# Altium integrated library TI Data Converters Digital to Analog Converter.IntLib: 1533 symbols (part 71 of 99)
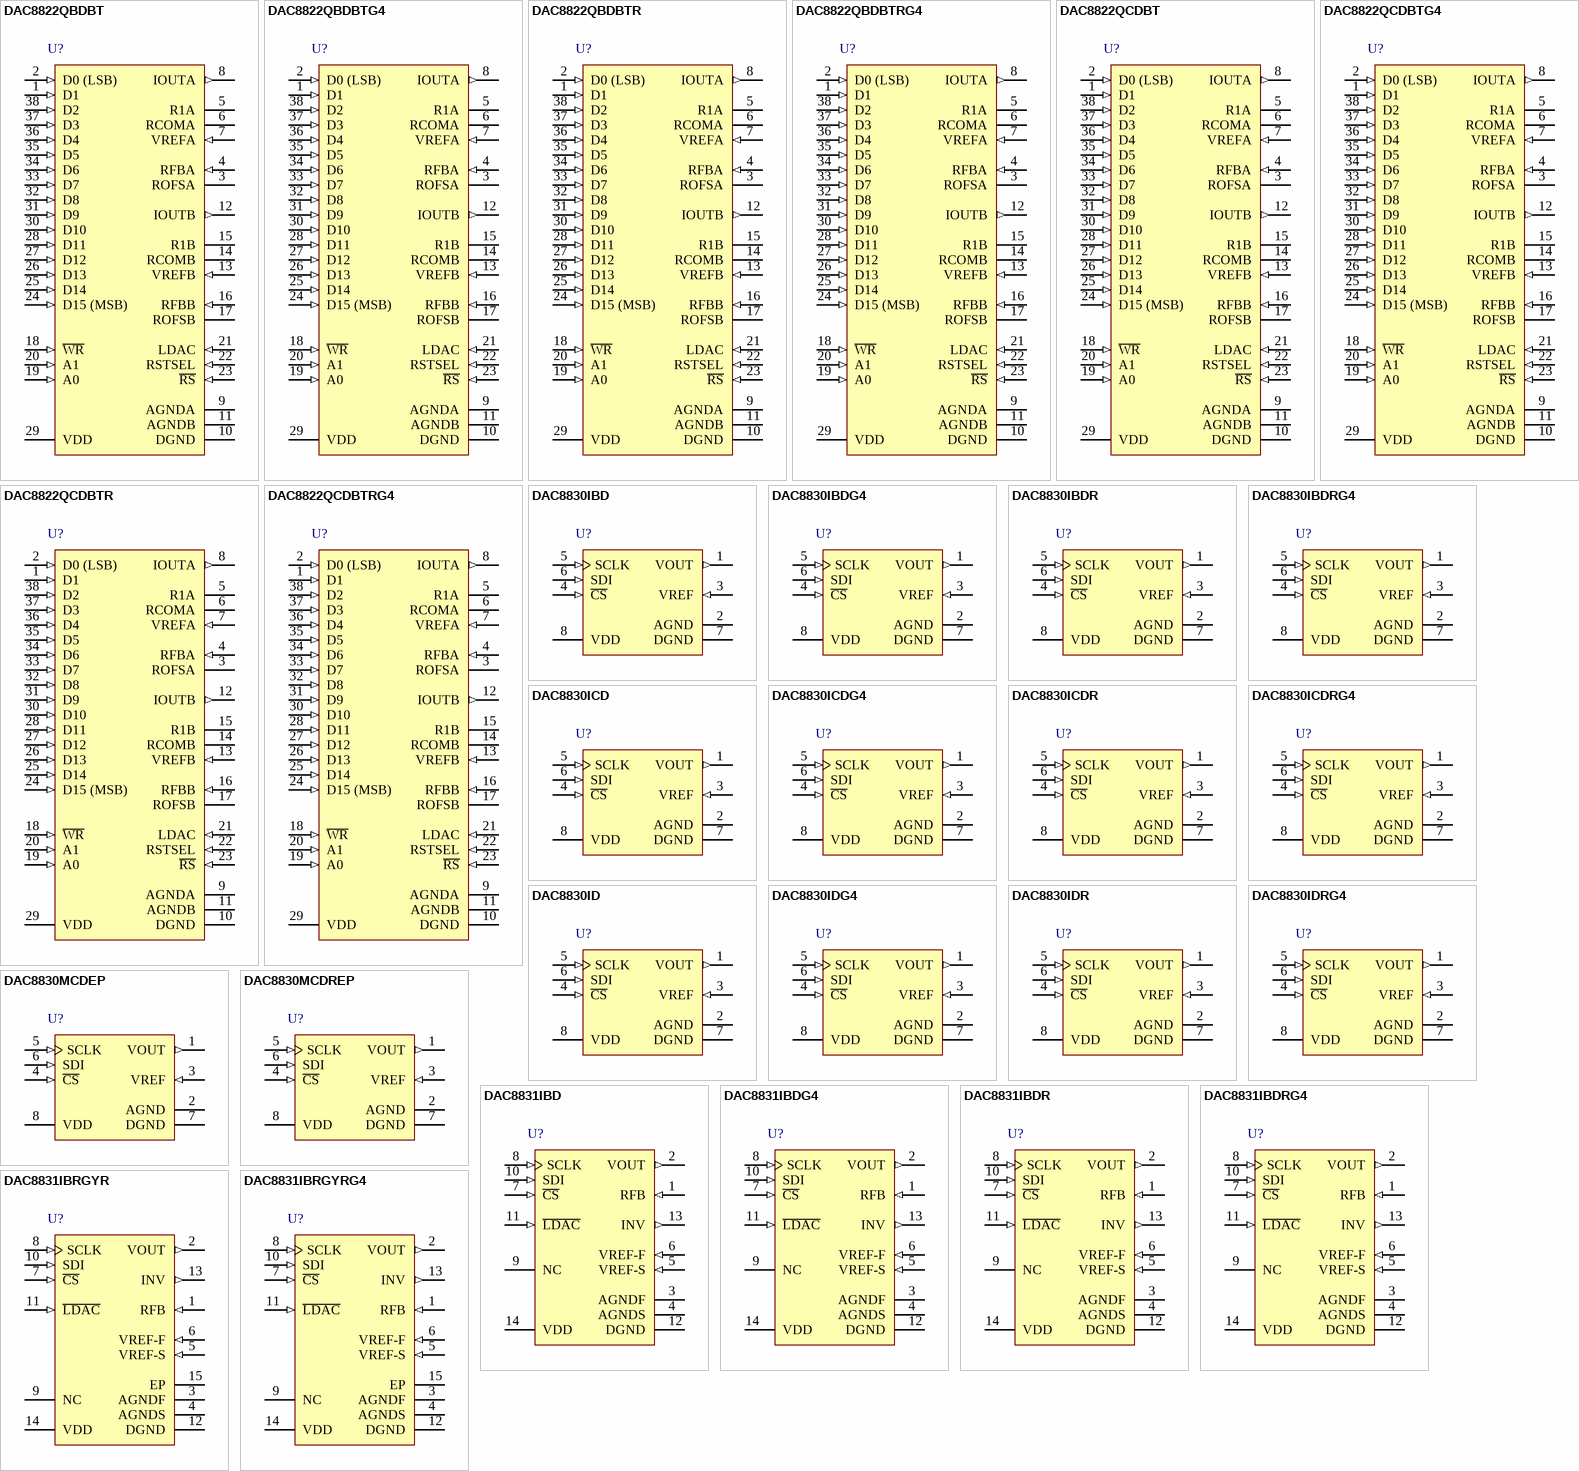
[diagram p143: symbols DAC8822QBDBT to DAC8831IBRGYRG4]

## DAC8822QCDBTRG4
designator U?
16-Bit Dual Parallel Interface High Accuracy Multiplying DAC, -40 to 125 degC, 38-pin SOP (DBT38), Green (RoHS & no Sb/Br); Manufacturer: Texas Instruments; PartNumber: DAC8822QCDBTRG4; DAC Channels: 2; DNL(Max)(+/-LSB): 1; Power Consumption(Typ)(mW): 0.025; Resolution(Bits): 16; Settling Time(us): 0.5; SubFamily: Precision DAC (=<10MSPS); DatasheetVersion: SBAS390A; PackageVersion: 4073252-6/I, 03/2011; PackageReference: DBT38; PackageDescription: 38-Pin Plastic Small Outline, Body 9.7 x 4.4 mm, Pitch 0.5 mm; Supplier 1: Digi-Key; Supplier Part Number 1: DAC8822QCDBTRG4-ND; Supplier 2: Mouser; Supplier Part Number 2: 595-DAC8822QCDBTRG4; Eco-Plan: Green (RoHS & no Sb/Br); INL(Max)(+/-LSB): 1; Interface: Parallel; Mounting Technology: Surface Mount; Code_JEDEC: MO-153; ComponentLink1Description: Manufacturer URL; ComponentLink1URL: http://www.ti.com/; ComponentLink2Description: Datasheet; ComponentLink2URL: http://www.ti.com/general/docs/lit/getliterature.tsp?genericPartNumber=DAC8822&fileType=pdf; ComponentLink3Description: Package Specification; ComponentLink3URL: http://www.ti.com/litv/pdf/mpds368
footprint TI-DBT38_N (SOP, 38-Leads, Body 9.7x4.4mm, Pitch 0.5mm, IPC Medium Density)
footprint TI-DBT38_L (SOP, 38-Leads, Body 9.7x4.4mm, Pitch 0.5mm, IPC High Density)
footprint TI-DBT38_M (SOP, 38-Leads, Body 9.7x4.4mm, Pitch 0.5mm, IPC Low Density)
pins: 1 D1 (in) "Digital Input Data Bits D0 to D15. Signal level must be =< VDD +0.3V. D15 is MSB", 2 D0 (LSB) (in) "Digital Input Data Bits D0 to D15. Signal level must be =< VDD +0.3V. D15 is MSB", 3 ROFSA "Bipolar Offset Resistor A. Accepts up to +/-18V.In 2-quadrant mode, ROFSA ties to RFBA. In 4-quadrant mode, ROFSA ties to R1A and the external reference", 4 RFBA (in) "Internal Matching Feedback Resistor A. Connects to the external op amp for I-V conversion.", 5 R1A "4-Quadrant Resistor.In 2-quadrant mode, R1A shorts to the VREFA pin.In 4-quadrant mode, R1A ties to ROFSA and the reference input.", 6 RCOMA "Center Tap Point of the Two 4-Quadrant Resistors, R1A and R2A. In 2-quadrantmode, RCOMA shorts to the VREF pin. In 4-quadrant mode, RCOMA ties to the inverting node of the reference amplifier.", 7 VREFA (in) "DAC A Reference Input in 2-Quadrant Mode, R2 Terminal in 4-Quadrant Mode.In 2-quadrant mode, VREFA is the reference input with constant input resistance versus code.In 4-quadrant mode, VREFA is driven by the external (See Datasheet)", 8 IOUTA (out) "DAC A Current Output. Connects to the inverting terminal of external precision I-V op amp for voltage output", 9 AGNDA (power) "DAC A Analog Ground.", 10 DGND (power) "Digital Ground.", 11 AGNDB (power) "DAC B Analog Ground.", 12 IOUTB (out) "DAC B Current Output. Connects to the inverting terminal of external precision I-V op amp for voltage output", 13 VREFB (in) "DAC B Reference Input in 2-Quadrant Mode, R2 Terminal in 4-Quadrant Mode.In 2-quadrant mode, VREFB is the reference input with constant input resistance versus code.In 4-quadrant mode, VREFB is driven by the external (See Datasheet)", 14 RCOMB "Center Tap Point of the Two 4-Quadrant Resistors, R1B and R2B.In 2-quadrant mode, RCOMB shorts to the VREF pin.In 4-quadrant mode, RCOMB ties to the inverting node of the reference amplifier.", 15 R1B "4-Quadrant Resistor. In 2-quadrant mode, R1B shorts to the VREFB pin.In 4-quadrant mode, R1B ties to ROFSB and the reference input.", 16 RFBB (in) "Internal Matching Feedback Resistor B. Connects to external op amp for I-V conversion.", 17 ROFSB "Bipolar Offset Resistor B. Accepts up to +/-18V.In 2-quadrant mode, ROFSB ties to RFBB.In 4-quadrant mode, ROFSB ties to R1B and the external reference.", 18 ~{WR} (in) "Write Control Digital Input In, Active Low. W\R\ enables input registers.Signal level must be =< VDD + 0.3V.", 19 A0 (in) "Address 0. Signal level must be Positive Power Supply Input. The specified range of operation is 2.7V to 5.5V. VDD + 0.3V.", 20 A1 (in) "Address 1. Signal level must be =< VDD + 0.3V", 21 LDAC (in) "Digital Input Load DAC Control. Signal level must be =< VDD + 0.3V. See the Function of Control Inputstable for details.", 22 RSTSEL (in) "Power-On Reset State.RSTSEL = 0 corresponds to zero-scale reset.RSTSEL = 1 corresponds to midscale reset.The signal level must be =< VDD + 0.3V.", 23 ~{RS} (in) "Reset. Active low resets both input and DAC registers.Resets to zero-scale if RSTSEL= 0, and to midscale if RSTSEL = 1.Signal level must be equal to or less than VDD + 0.3 V.", 24 D15 (MSB) (in) "Digital Input Data Bits D0 to D15. Signal level must be =< VDD +0.3V. D15 is MSB", 25 D14 (in) "Digital Input Data Bits D0 to D15. Signal level must be =< VDD +0.3V. D15 is MSB", 26 D13 (in) "Digital Input Data Bits D0 to D15. Signal level must be =< VDD +0.3V. D15 is MSB", 27 D12 (in) "Digital Input Data Bits D0 to D15. Signal level must be =< VDD +0.3V. D15 is MSB", 28 D11 (in) "Digital Input Data Bits D0 to D15. Signal level must be =< VDD +0.3V. D15 is MSB", 29 VDD (power) "Positive Power Supply Input. The specified range of operation is 2.7V to 5.5V.", 30 D10 (in) "Digital Input Data Bits D0 to D15. Signal level must be =< VDD +0.3V. D15 is MSB", 31 D9 (in) "Digital Input Data Bits D0 to D15. Signal level must be =< VDD +0.3V. D15 is MSB", 32 D8 (in) "Digital Input Data Bits D0 to D15. Signal level must be =< VDD +0.3V. D15 is MSB", 33 D7 (in) "Digital Input Data Bits D0 to D15. Signal level must be =< VDD +0.3V. D15 is MSB", 34 D6 (in) "Digital Input Data Bits D0 to D15. Signal level must be =< VDD +0.3V. D15 is MSB", 35 D5 (in) "Digital Input Data Bits D0 to D15. Signal level must be =< VDD +0.3V. D15 is MSB", 36 D4 (in) "Digital Input Data Bits D0 to D15. Signal level must be =< VDD +0.3V. D15 is MSB", 37 D3 (in) "Digital Input Data Bits D0 to D15. Signal level must be =< VDD +0.3V. D15 is MSB", 38 D2 (in) "Digital Input Data Bits D0 to D15. Signal level must be =< VDD +0.3V. D15 is MSB"

## DAC8830IBD
designator U?
16-Bit, Ultra-Low Power, Voltage Output Digital to Analog Converter, -40 to 85 degC, 8-pin SOIC (D8), Green (RoHS & no Sb/Br); Manufacturer: Texas Instruments; PartNumber: DAC8830IBD; DAC Channels: 1; INL(Max)(+/-LSB): 2; Interface: Serial SPI; Power Consumption(Typ)(mW): 0.015; Resolution(Bits): 16; SubFamily: Precision DAC (=<10MSPS); DatasheetVersion: SLAS449D; PackageVersion: 4040047-3/M, 06/2011; PackageReference: D8; PackageDescription: 8-Pin Plastic Small Outline, Body 4.9 x 3.9 mm, Pitch 1.27 mm; Supplier 1: Digi-Key; Supplier Part Number 1: 296-21736-5-ND; Supplier 2: Newark; Supplier Part Number 2: 36M3783; Supplier 3: Mouser; Supplier Part Number 3: 595-DAC8830IBD; DNL(Max)(+/-LSB): 1; Eco-Plan: Green (RoHS & no Sb/Br); Settling Time(us): 1; Mounting Technology: Surface Mount; Code_JEDEC: MS-012; ComponentLink1Description: Manufacturer URL; ComponentLink1URL: http://www.ti.com/; ComponentLink2Description: Datasheet; ComponentLink2URL: http://www.ti.com/general/docs/lit/getliterature.tsp?genericPartNumber=DAC8830&fileType=pdf; ComponentLink3Description: Package Specification; ComponentLink3URL: http://www.ti.com/litv/pdf/msoi002j
footprint TI-D8_N (SOIC, 8-Leads, Body 4.9x3.9mm, Pitch 1.27mm, IPC Medium Density)
footprint TI-D8_L (SOIC, 8-Leads, Body 4.9x3.9mm, Pitch 1.27mm, IPC High Density)
footprint TI-D8_M (SOIC, 8-Leads, Body 4.9x3.9mm, Pitch 1.27mm, IPC Low Density)
pins: 1 VOUT (out) "Analog output of DAC", 2 AGND (power) "Analog ground", 3 VREF (in) "Voltage reference input", 4 ~{CS} (in) "Chip select input (active low). Data are not clocked into SDI unless C\S\ is low", 5 SCLK (in) "Serial clock input", 6 SDI (in) "Serial data input. Data are latched into input register on the rising edge of SCLK.", 7 DGND (power) "Digital ground", 8 VDD (power) "Analog power supply, +3 V to +5 V"

## DAC8830IBDG4
designator U?
16-Bit, Ultra-Low Power, Voltage Output Digital to Analog Converter, -40 to 85 degC, 8-pin SOIC (D8), Green (RoHS & no Sb/Br); Manufacturer: Texas Instruments; PartNumber: DAC8830IBDG4; DAC Channels: 1; INL(Max)(+/-LSB): 2; Interface: Serial SPI; Power Consumption(Typ)(mW): 0.015; Resolution(Bits): 16; SubFamily: Precision DAC (=<10MSPS); DatasheetVersion: SLAS449D; PackageVersion: 4040047-3/M, 06/2011; PackageReference: D8; PackageDescription: 8-Pin Plastic Small Outline, Body 4.9 x 3.9 mm, Pitch 1.27 mm; Supplier 1: Digi-Key; Supplier Part Number 1: DAC8830IBDG4-ND; Supplier 2: Newark; Supplier Part Number 2: 36M3784; Supplier 3: Mouser; Supplier Part Number 3: 595-DAC8830IBDG4; DNL(Max)(+/-LSB): 1; Eco-Plan: Green (RoHS & no Sb/Br); Settling Time(us): 1; Mounting Technology: Surface Mount; Code_JEDEC: MS-012; ComponentLink1Description: Manufacturer URL; ComponentLink1URL: http://www.ti.com/; ComponentLink2Description: Datasheet; ComponentLink2URL: http://www.ti.com/general/docs/lit/getliterature.tsp?genericPartNumber=DAC8830&fileType=pdf; ComponentLink3Description: Package Specification; ComponentLink3URL: http://www.ti.com/litv/pdf/msoi002j
footprint TI-D8_N (SOIC, 8-Leads, Body 4.9x3.9mm, Pitch 1.27mm, IPC Medium Density)
footprint TI-D8_L (SOIC, 8-Leads, Body 4.9x3.9mm, Pitch 1.27mm, IPC High Density)
footprint TI-D8_M (SOIC, 8-Leads, Body 4.9x3.9mm, Pitch 1.27mm, IPC Low Density)
pins: 1 VOUT (out) "Analog output of DAC", 2 AGND (power) "Analog ground", 3 VREF (in) "Voltage reference input", 4 ~{CS} (in) "Chip select input (active low). Data are not clocked into SDI unless C\S\ is low", 5 SCLK (in) "Serial clock input", 6 SDI (in) "Serial data input. Data are latched into input register on the rising edge of SCLK.", 7 DGND (power) "Digital ground", 8 VDD (power) "Analog power supply, +3 V to +5 V"

## DAC8830IBDR
designator U?
16-Bit, Ultra-Low Power, Voltage Output Digital to Analog Converter, -40 to 85 degC, 8-pin SOIC (D8), Green (RoHS & no Sb/Br); Manufacturer: Texas Instruments; PartNumber: DAC8830IBDR; DAC Channels: 1; INL(Max)(+/-LSB): 2; Interface: Serial SPI; Power Consumption(Typ)(mW): 0.015; Resolution(Bits): 16; SubFamily: Precision DAC (=<10MSPS); DatasheetVersion: SLAS449D; PackageVersion: 4040047-3/M, 06/2011; PackageReference: D8; PackageDescription: 8-Pin Plastic Small Outline, Body 4.9 x 3.9 mm, Pitch 1.27 mm; Supplier 1: Digi-Key; Supplier Part Number 1: DAC8830IBDR-ND; Supplier 2: Mouser; Supplier Part Number 2: 595-DAC8830IBDR; DNL(Max)(+/-LSB): 1; Eco-Plan: Green (RoHS & no Sb/Br); Settling Time(us): 1; Mounting Technology: Surface Mount; Code_JEDEC: MS-012; ComponentLink1Description: Manufacturer URL; ComponentLink1URL: http://www.ti.com/; ComponentLink2Description: Datasheet; ComponentLink2URL: http://www.ti.com/general/docs/lit/getliterature.tsp?genericPartNumber=DAC8830&fileType=pdf; ComponentLink3Description: Package Specification; ComponentLink3URL: http://www.ti.com/litv/pdf/msoi002j
footprint TI-D8_N (SOIC, 8-Leads, Body 4.9x3.9mm, Pitch 1.27mm, IPC Medium Density)
footprint TI-D8_L (SOIC, 8-Leads, Body 4.9x3.9mm, Pitch 1.27mm, IPC High Density)
footprint TI-D8_M (SOIC, 8-Leads, Body 4.9x3.9mm, Pitch 1.27mm, IPC Low Density)
pins: 1 VOUT (out) "Analog output of DAC", 2 AGND (power) "Analog ground", 3 VREF (in) "Voltage reference input", 4 ~{CS} (in) "Chip select input (active low). Data are not clocked into SDI unless C\S\ is low", 5 SCLK (in) "Serial clock input", 6 SDI (in) "Serial data input. Data are latched into input register on the rising edge of SCLK.", 7 DGND (power) "Digital ground", 8 VDD (power) "Analog power supply, +3 V to +5 V"

## DAC8830IBDRG4
designator U?
16-Bit, Ultra-Low Power, Voltage Output Digital to Analog Converter, -40 to 85 degC, 8-pin SOIC (D8), Green (RoHS & no Sb/Br); Manufacturer: Texas Instruments; PartNumber: DAC8830IBDRG4; DAC Channels: 1; INL(Max)(+/-LSB): 2; Interface: Serial SPI; Power Consumption(Typ)(mW): 0.015; Resolution(Bits): 16; SubFamily: Precision DAC (=<10MSPS); DatasheetVersion: SLAS449D; PackageVersion: 4040047-3/M, 06/2011; PackageReference: D8; PackageDescription: 8-Pin Plastic Small Outline, Body 4.9 x 3.9 mm, Pitch 1.27 mm; Supplier 1: Digi-Key; Supplier Part Number 1: DAC8830IBDRG4-ND; Supplier 2: Newark; Supplier Part Number 2: 03M7557; Supplier 3: Mouser; Supplier Part Number 3: 595-DAC8830IBDRG4; DNL(Max)(+/-LSB): 1; Eco-Plan: Green (RoHS & no Sb/Br); Settling Time(us): 1; Mounting Technology: Surface Mount; Code_JEDEC: MS-012; ComponentLink1Description: Manufacturer URL; ComponentLink1URL: http://www.ti.com/; ComponentLink2Description: Datasheet; ComponentLink2URL: http://www.ti.com/general/docs/lit/getliterature.tsp?genericPartNumber=DAC8830&fileType=pdf; ComponentLink3Description: Package Specification; ComponentLink3URL: http://www.ti.com/litv/pdf/msoi002j
footprint TI-D8_N (SOIC, 8-Leads, Body 4.9x3.9mm, Pitch 1.27mm, IPC Medium Density)
footprint TI-D8_L (SOIC, 8-Leads, Body 4.9x3.9mm, Pitch 1.27mm, IPC High Density)
footprint TI-D8_M (SOIC, 8-Leads, Body 4.9x3.9mm, Pitch 1.27mm, IPC Low Density)
pins: 1 VOUT (out) "Analog output of DAC", 2 AGND (power) "Analog ground", 3 VREF (in) "Voltage reference input", 4 ~{CS} (in) "Chip select input (active low). Data are not clocked into SDI unless C\S\ is low", 5 SCLK (in) "Serial clock input", 6 SDI (in) "Serial data input. Data are latched into input register on the rising edge of SCLK.", 7 DGND (power) "Digital ground", 8 VDD (power) "Analog power supply, +3 V to +5 V"

## DAC8830ICD
designator U?
16-Bit, Ultra-Low Power, Voltage Output Digital to Analog Converter, -40 to 85 degC, 8-pin SOIC (D8), Green (RoHS & no Sb/Br); Manufacturer: Texas Instruments; PartNumber: DAC8830ICD; DAC Channels: 1; Interface: Serial SPI; Power Consumption(Typ)(mW): 0.015; Resolution(Bits): 16; SubFamily: Precision DAC (=<10MSPS); DatasheetVersion: SLAS449D; PackageVersion: 4040047-3/M, 06/2011; PackageReference: D8; PackageDescription: 8-Pin Plastic Small Outline, Body 4.9 x 3.9 mm, Pitch 1.27 mm; Supplier 1: Digi-Key; Supplier Part Number 1: 296-21737-5-ND; Supplier 2: Farnell; Supplier Part Number 2: 2125068; Supplier 3: Newark; Supplier Part Number 3: 34M2210; Supplier 4: Mouser; Supplier Part Number 4: 595-DAC8830ICD; DNL(Max)(+/-LSB): 1; Eco-Plan: Green (RoHS & no Sb/Br); INL(Max)(+/-LSB): 1; Settling Time(us): 1; Mounting Technology: Surface Mount; Code_JEDEC: MS-012; ComponentLink1Description: Manufacturer URL; ComponentLink1URL: http://www.ti.com/; ComponentLink2Description: Datasheet; ComponentLink2URL: http://www.ti.com/general/docs/lit/getliterature.tsp?genericPartNumber=DAC8830&fileType=pdf; ComponentLink3Description: Package Specification; ComponentLink3URL: http://www.ti.com/litv/pdf/msoi002j
footprint TI-D8_N (SOIC, 8-Leads, Body 4.9x3.9mm, Pitch 1.27mm, IPC Medium Density)
footprint TI-D8_L (SOIC, 8-Leads, Body 4.9x3.9mm, Pitch 1.27mm, IPC High Density)
footprint TI-D8_M (SOIC, 8-Leads, Body 4.9x3.9mm, Pitch 1.27mm, IPC Low Density)
pins: 1 VOUT (out) "Analog output of DAC", 2 AGND (power) "Analog ground", 3 VREF (in) "Voltage reference input", 4 ~{CS} (in) "Chip select input (active low). Data are not clocked into SDI unless C\S\ is low", 5 SCLK (in) "Serial clock input", 6 SDI (in) "Serial data input. Data are latched into input register on the rising edge of SCLK.", 7 DGND (power) "Digital ground", 8 VDD (power) "Analog power supply, +3 V to +5 V"

## DAC8830ICDG4
designator U?
16-Bit, Ultra-Low Power, Voltage Output Digital to Analog Converter, -40 to 85 degC, 8-pin SOIC (D8), Green (RoHS & no Sb/Br); Manufacturer: Texas Instruments; PartNumber: DAC8830ICDG4; DAC Channels: 1; Interface: Serial SPI; Power Consumption(Typ)(mW): 0.015; Resolution(Bits): 16; SubFamily: Precision DAC (=<10MSPS); DatasheetVersion: SLAS449D; PackageVersion: 4040047-3/M, 06/2011; PackageReference: D8; PackageDescription: 8-Pin Plastic Small Outline, Body 4.9 x 3.9 mm, Pitch 1.27 mm; Supplier 1: Digi-Key; Supplier Part Number 1: DAC8830ICDG4-ND; Supplier 2: Newark; Supplier Part Number 2: 36M3785; Supplier 3: Mouser; Supplier Part Number 3: 595-DAC8830ICDG4; DNL(Max)(+/-LSB): 1; Eco-Plan: Green (RoHS & no Sb/Br); INL(Max)(+/-LSB): 1; Settling Time(us): 1; Mounting Technology: Surface Mount; Code_JEDEC: MS-012; ComponentLink1Description: Manufacturer URL; ComponentLink1URL: http://www.ti.com/; ComponentLink2Description: Datasheet; ComponentLink2URL: http://www.ti.com/general/docs/lit/getliterature.tsp?genericPartNumber=DAC8830&fileType=pdf; ComponentLink3Description: Package Specification; ComponentLink3URL: http://www.ti.com/litv/pdf/msoi002j
footprint TI-D8_N (SOIC, 8-Leads, Body 4.9x3.9mm, Pitch 1.27mm, IPC Medium Density)
footprint TI-D8_L (SOIC, 8-Leads, Body 4.9x3.9mm, Pitch 1.27mm, IPC High Density)
footprint TI-D8_M (SOIC, 8-Leads, Body 4.9x3.9mm, Pitch 1.27mm, IPC Low Density)
pins: 1 VOUT (out) "Analog output of DAC", 2 AGND (power) "Analog ground", 3 VREF (in) "Voltage reference input", 4 ~{CS} (in) "Chip select input (active low). Data are not clocked into SDI unless C\S\ is low", 5 SCLK (in) "Serial clock input", 6 SDI (in) "Serial data input. Data are latched into input register on the rising edge of SCLK.", 7 DGND (power) "Digital ground", 8 VDD (power) "Analog power supply, +3 V to +5 V"

## DAC8830ICDR
designator U?
16-Bit, Ultra-Low Power, Voltage Output Digital to Analog Converter, -40 to 85 degC, 8-pin SOIC (D8), Green (RoHS & no Sb/Br); Manufacturer: Texas Instruments; PartNumber: DAC8830ICDR; DAC Channels: 1; Interface: Serial SPI; Power Consumption(Typ)(mW): 0.015; Resolution(Bits): 16; SubFamily: Precision DAC (=<10MSPS); DatasheetVersion: SLAS449D; PackageVersion: 4040047-3/M, 06/2011; PackageReference: D8; PackageDescription: 8-Pin Plastic Small Outline, Body 4.9 x 3.9 mm, Pitch 1.27 mm; Supplier 1: Digi-Key; Supplier Part Number 1: DAC8830ICDR-ND; Supplier 2: Newark; Supplier Part Number 2: 33K5134; Supplier 3: Mouser; Supplier Part Number 3: 595-DAC8830ICDR; DNL(Max)(+/-LSB): 1; Eco-Plan: Green (RoHS & no Sb/Br); INL(Max)(+/-LSB): 1; Settling Time(us): 1; Mounting Technology: Surface Mount; Code_JEDEC: MS-012; ComponentLink1Description: Manufacturer URL; ComponentLink1URL: http://www.ti.com/; ComponentLink2Description: Datasheet; ComponentLink2URL: http://www.ti.com/general/docs/lit/getliterature.tsp?genericPartNumber=DAC8830&fileType=pdf; ComponentLink3Description: Package Specification; ComponentLink3URL: http://www.ti.com/litv/pdf/msoi002j
footprint TI-D8_N (SOIC, 8-Leads, Body 4.9x3.9mm, Pitch 1.27mm, IPC Medium Density)
footprint TI-D8_L (SOIC, 8-Leads, Body 4.9x3.9mm, Pitch 1.27mm, IPC High Density)
footprint TI-D8_M (SOIC, 8-Leads, Body 4.9x3.9mm, Pitch 1.27mm, IPC Low Density)
pins: 1 VOUT (out) "Analog output of DAC", 2 AGND (power) "Analog ground", 3 VREF (in) "Voltage reference input", 4 ~{CS} (in) "Chip select input (active low). Data are not clocked into SDI unless C\S\ is low", 5 SCLK (in) "Serial clock input", 6 SDI (in) "Serial data input. Data are latched into input register on the rising edge of SCLK.", 7 DGND (power) "Digital ground", 8 VDD (power) "Analog power supply, +3 V to +5 V"

## DAC8830ICDRG4
designator U?
16-Bit, Ultra-Low Power, Voltage Output Digital to Analog Converter, -40 to 85 degC, 8-pin SOIC (D8), Green (RoHS & no Sb/Br); Manufacturer: Texas Instruments; PartNumber: DAC8830ICDRG4; DAC Channels: 1; Interface: Serial SPI; Power Consumption(Typ)(mW): 0.015; Resolution(Bits): 16; SubFamily: Precision DAC (=<10MSPS); DatasheetVersion: SLAS449D; PackageVersion: 4040047-3/M, 06/2011; PackageReference: D8; PackageDescription: 8-Pin Plastic Small Outline, Body 4.9 x 3.9 mm, Pitch 1.27 mm; Supplier 1: Digi-Key; Supplier Part Number 1: DAC8830ICDRG4-ND; Supplier 2: Mouser; Supplier Part Number 2: 595-DAC8830ICDRG4; DNL(Max)(+/-LSB): 1; Eco-Plan: Green (RoHS & no Sb/Br); INL(Max)(+/-LSB): 1; Settling Time(us): 1; Mounting Technology: Surface Mount; Code_JEDEC: MS-012; ComponentLink1Description: Manufacturer URL; ComponentLink1URL: http://www.ti.com/; ComponentLink2Description: Datasheet; ComponentLink2URL: http://www.ti.com/general/docs/lit/getliterature.tsp?genericPartNumber=DAC8830&fileType=pdf; ComponentLink3Description: Package Specification; ComponentLink3URL: http://www.ti.com/litv/pdf/msoi002j
footprint TI-D8_N (SOIC, 8-Leads, Body 4.9x3.9mm, Pitch 1.27mm, IPC Medium Density)
footprint TI-D8_L (SOIC, 8-Leads, Body 4.9x3.9mm, Pitch 1.27mm, IPC High Density)
footprint TI-D8_M (SOIC, 8-Leads, Body 4.9x3.9mm, Pitch 1.27mm, IPC Low Density)
pins: 1 VOUT (out) "Analog output of DAC", 2 AGND (power) "Analog ground", 3 VREF (in) "Voltage reference input", 4 ~{CS} (in) "Chip select input (active low). Data are not clocked into SDI unless C\S\ is low", 5 SCLK (in) "Serial clock input", 6 SDI (in) "Serial data input. Data are latched into input register on the rising edge of SCLK.", 7 DGND (power) "Digital ground", 8 VDD (power) "Analog power supply, +3 V to +5 V"

## DAC8830ID
designator U?
16-Bit, Ultra-Low Power, Voltage Output Digital to Analog Converter, -40 to 85 degC, 8-pin SOIC (D8), Green (RoHS & no Sb/Br); Manufacturer: Texas Instruments; PartNumber: DAC8830ID; DAC Channels: 1; INL(Max)(+/-LSB): 4; Interface: Serial SPI; Power Consumption(Typ)(mW): 0.015; Resolution(Bits): 16; SubFamily: Precision DAC (=<10MSPS); DatasheetVersion: SLAS449D; PackageVersion: 4040047-3/M, 06/2011; PackageReference: D8; PackageDescription: 8-Pin Plastic Small Outline, Body 4.9 x 3.9 mm, Pitch 1.27 mm; Supplier 1: Digi-Key; Supplier Part Number 1: 296-21738-5-ND; Supplier 2: Newark; Supplier Part Number 2: 36M3786; Supplier 3: Mouser; Supplier Part Number 3: 595-DAC8830ID; DNL(Max)(+/-LSB): 1; Eco-Plan: Green (RoHS & no Sb/Br); Settling Time(us): 1; Mounting Technology: Surface Mount; Code_JEDEC: MS-012; ComponentLink1Description: Manufacturer URL; ComponentLink1URL: http://www.ti.com/; ComponentLink2Description: Datasheet; ComponentLink2URL: http://www.ti.com/general/docs/lit/getliterature.tsp?genericPartNumber=DAC8830&fileType=pdf; ComponentLink3Description: Package Specification; ComponentLink3URL: http://www.ti.com/litv/pdf/msoi002j
footprint TI-D8_N (SOIC, 8-Leads, Body 4.9x3.9mm, Pitch 1.27mm, IPC Medium Density)
footprint TI-D8_L (SOIC, 8-Leads, Body 4.9x3.9mm, Pitch 1.27mm, IPC High Density)
footprint TI-D8_M (SOIC, 8-Leads, Body 4.9x3.9mm, Pitch 1.27mm, IPC Low Density)
pins: 1 VOUT (out) "Analog output of DAC", 2 AGND (power) "Analog ground", 3 VREF (in) "Voltage reference input", 4 ~{CS} (in) "Chip select input (active low). Data are not clocked into SDI unless C\S\ is low", 5 SCLK (in) "Serial clock input", 6 SDI (in) "Serial data input. Data are latched into input register on the rising edge of SCLK.", 7 DGND (power) "Digital ground", 8 VDD (power) "Analog power supply, +3 V to +5 V"

## DAC8830IDG4
designator U?
16-Bit, Ultra-Low Power, Voltage Output Digital to Analog Converter, -40 to 85 degC, 8-pin SOIC (D8), Green (RoHS & no Sb/Br); Manufacturer: Texas Instruments; PartNumber: DAC8830IDG4; DAC Channels: 1; INL(Max)(+/-LSB): 4; Interface: Serial SPI; Power Consumption(Typ)(mW): 0.015; Resolution(Bits): 16; SubFamily: Precision DAC (=<10MSPS); DatasheetVersion: SLAS449D; PackageVersion: 4040047-3/M, 06/2011; PackageReference: D8; PackageDescription: 8-Pin Plastic Small Outline, Body 4.9 x 3.9 mm, Pitch 1.27 mm; Supplier 1: Digi-Key; Supplier Part Number 1: DAC8830IDG4-ND; Supplier 2: Mouser; Supplier Part Number 2: 595-DAC8830IDG4; DNL(Max)(+/-LSB): 1; Eco-Plan: Green (RoHS & no Sb/Br); Settling Time(us): 1; Mounting Technology: Surface Mount; Code_JEDEC: MS-012; ComponentLink1Description: Manufacturer URL; ComponentLink1URL: http://www.ti.com/; ComponentLink2Description: Datasheet; ComponentLink2URL: http://www.ti.com/general/docs/lit/getliterature.tsp?genericPartNumber=DAC8830&fileType=pdf; ComponentLink3Description: Package Specification; ComponentLink3URL: http://www.ti.com/litv/pdf/msoi002j
footprint TI-D8_N (SOIC, 8-Leads, Body 4.9x3.9mm, Pitch 1.27mm, IPC Medium Density)
footprint TI-D8_L (SOIC, 8-Leads, Body 4.9x3.9mm, Pitch 1.27mm, IPC High Density)
footprint TI-D8_M (SOIC, 8-Leads, Body 4.9x3.9mm, Pitch 1.27mm, IPC Low Density)
pins: 1 VOUT (out) "Analog output of DAC", 2 AGND (power) "Analog ground", 3 VREF (in) "Voltage reference input", 4 ~{CS} (in) "Chip select input (active low). Data are not clocked into SDI unless C\S\ is low", 5 SCLK (in) "Serial clock input", 6 SDI (in) "Serial data input. Data are latched into input register on the rising edge of SCLK.", 7 DGND (power) "Digital ground", 8 VDD (power) "Analog power supply, +3 V to +5 V"

## DAC8830IDR
designator U?
16-Bit, Ultra-Low Power, Voltage Output Digital to Analog Converter, -40 to 85 degC, 8-pin SOIC (D8), Green (RoHS & no Sb/Br); Manufacturer: Texas Instruments; PartNumber: DAC8830IDR; DAC Channels: 1; INL(Max)(+/-LSB): 4; Interface: Serial SPI; Power Consumption(Typ)(mW): 0.015; Resolution(Bits): 16; SubFamily: Precision DAC (=<10MSPS); DatasheetVersion: SLAS449D; PackageVersion: 4040047-3/M, 06/2011; PackageReference: D8; PackageDescription: 8-Pin Plastic Small Outline, Body 4.9 x 3.9 mm, Pitch 1.27 mm; Supplier 1: Digi-Key; Supplier Part Number 1: DAC8830IDR-ND; Supplier 2: Newark; Supplier Part Number 2: 33K5136; Supplier 3: Mouser; Supplier Part Number 3: 595-DAC8830IDR; DNL(Max)(+/-LSB): 1; Eco-Plan: Green (RoHS & no Sb/Br); Settling Time(us): 1; Mounting Technology: Surface Mount; Code_JEDEC: MS-012; ComponentLink1Description: Manufacturer URL; ComponentLink1URL: http://www.ti.com/; ComponentLink2Description: Datasheet; ComponentLink2URL: http://www.ti.com/general/docs/lit/getliterature.tsp?genericPartNumber=DAC8830&fileType=pdf; ComponentLink3Description: Package Specification; ComponentLink3URL: http://www.ti.com/litv/pdf/msoi002j
footprint TI-D8_N (SOIC, 8-Leads, Body 4.9x3.9mm, Pitch 1.27mm, IPC Medium Density)
footprint TI-D8_L (SOIC, 8-Leads, Body 4.9x3.9mm, Pitch 1.27mm, IPC High Density)
footprint TI-D8_M (SOIC, 8-Leads, Body 4.9x3.9mm, Pitch 1.27mm, IPC Low Density)
pins: 1 VOUT (out) "Analog output of DAC", 2 AGND (power) "Analog ground", 3 VREF (in) "Voltage reference input", 4 ~{CS} (in) "Chip select input (active low). Data are not clocked into SDI unless C\S\ is low", 5 SCLK (in) "Serial clock input", 6 SDI (in) "Serial data input. Data are latched into input register on the rising edge of SCLK.", 7 DGND (power) "Digital ground", 8 VDD (power) "Analog power supply, +3 V to +5 V"

## DAC8830IDRG4
designator U?
16-Bit, Ultra-Low Power, Voltage Output Digital to Analog Converter, -40 to 85 degC, 8-pin SOIC (D8), Green (RoHS & no Sb/Br); Manufacturer: Texas Instruments; PartNumber: DAC8830IDRG4; DAC Channels: 1; INL(Max)(+/-LSB): 4; Interface: Serial SPI; Power Consumption(Typ)(mW): 0.015; Resolution(Bits): 16; SubFamily: Precision DAC (=<10MSPS); DatasheetVersion: SLAS449D; PackageVersion: 4040047-3/M, 06/2011; PackageReference: D8; PackageDescription: 8-Pin Plastic Small Outline, Body 4.9 x 3.9 mm, Pitch 1.27 mm; Supplier 1: Digi-Key; Supplier Part Number 1: DAC8830IDRG4-ND; Supplier 2: Mouser; Supplier Part Number 2: 595-DAC8830IDRG4; DNL(Max)(+/-LSB): 1; Eco-Plan: Green (RoHS & no Sb/Br); Settling Time(us): 1; Mounting Technology: Surface Mount; Code_JEDEC: MS-012; ComponentLink1Description: Manufacturer URL; ComponentLink1URL: http://www.ti.com/; ComponentLink2Description: Datasheet; ComponentLink2URL: http://www.ti.com/general/docs/lit/getliterature.tsp?genericPartNumber=DAC8830&fileType=pdf; ComponentLink3Description: Package Specification; ComponentLink3URL: http://www.ti.com/litv/pdf/msoi002j
footprint TI-D8_N (SOIC, 8-Leads, Body 4.9x3.9mm, Pitch 1.27mm, IPC Medium Density)
footprint TI-D8_L (SOIC, 8-Leads, Body 4.9x3.9mm, Pitch 1.27mm, IPC High Density)
footprint TI-D8_M (SOIC, 8-Leads, Body 4.9x3.9mm, Pitch 1.27mm, IPC Low Density)
pins: 1 VOUT (out) "Analog output of DAC", 2 AGND (power) "Analog ground", 3 VREF (in) "Voltage reference input", 4 ~{CS} (in) "Chip select input (active low). Data are not clocked into SDI unless C\S\ is low", 5 SCLK (in) "Serial clock input", 6 SDI (in) "Serial data input. Data are latched into input register on the rising edge of SCLK.", 7 DGND (power) "Digital ground", 8 VDD (power) "Analog power supply, +3 V to +5 V"

## DAC8830MCDEP
designator U?
Enhanced Product 16-Bit Ultra-Low Power Voltage-Output DAC, -55 to 125 degC, 8-pin SOIC (D8), Green (RoHS & no Sb/Br); Manufacturer: Texas Instruments; PartNumber: DAC8830MCDEP; DAC Channels: 1; Interface: Serial SPI; Power Consumption(Typ)(mW): 0.015; Resolution(Bits): 16; SubFamily: Precision DAC (=<10MSPS); DatasheetVersion: SGLS334C; PackageVersion: 4040047-3/M, 06/2011; PackageReference: D8; PackageDescription: 8-Pin Plastic Small Outline, Body 4.9 x 3.9 mm, Pitch 1.27 mm; Supplier 1: Mouser; Supplier Part Number 1: 595-DAC8830MCDEP; DNL(Max)(+/-LSB): 1; Eco-Plan: Green (RoHS & no Sb/Br); INL(Max)(+/-LSB): 1; Settling Time(us): 1; Mounting Technology: Surface Mount; Code_JEDEC: MS-012; ComponentLink1Description: Manufacturer URL; ComponentLink1URL: http://www.ti.com/; ComponentLink2Description: Datasheet; ComponentLink2URL: http://www.ti.com/general/docs/lit/getliterature.tsp?genericPartNumber=DAC8830-EP&fileType=pdf; ComponentLink3Description: Package Specification; ComponentLink3URL: http://www.ti.com/litv/pdf/msoi002j
footprint TI-D8_N (SOIC, 8-Leads, Body 4.9x3.9mm, Pitch 1.27mm, IPC Medium Density)
footprint TI-D8_L (SOIC, 8-Leads, Body 4.9x3.9mm, Pitch 1.27mm, IPC High Density)
footprint TI-D8_M (SOIC, 8-Leads, Body 4.9x3.9mm, Pitch 1.27mm, IPC Low Density)
pins: 1 VOUT (out) "Analog output of DAC", 2 AGND (power) "Analog ground", 3 VREF (in) "Voltage reference input", 4 ~{CS} (in) "Chip select input (active low). Data are not clocked into SDI unless C\S\ is low", 5 SCLK (in) "Serial clock input", 6 SDI (in) "Serial data input. Data are latched into input register on the rising edge of SCLK.", 7 DGND (power) "Digital ground", 8 VDD (power) "Analog power supply, +3 V to +5 V"

## DAC8830MCDREP
designator U?
Enhanced Product 16-Bit Ultra-Low Power Voltage-Output DAC, -55 to 125 degC, 8-pin SOIC (D8), Green (RoHS & no Sb/Br); Manufacturer: Texas Instruments; PartNumber: DAC8830MCDREP; DAC Channels: 1; Interface: Serial SPI; Power Consumption(Typ)(mW): 0.015; Resolution(Bits): 16; SubFamily: Precision DAC (=<10MSPS); DatasheetVersion: SGLS334C; PackageVersion: 4040047-3/M, 06/2011; PackageReference: D8; PackageDescription: 8-Pin Plastic Small Outline, Body 4.9 x 3.9 mm, Pitch 1.27 mm; Supplier 1: Newark; Supplier Part Number 1: 79R7944; Supplier 2: Mouser; Supplier Part Number 2: 595-DAC8830MCDREP; DNL(Max)(+/-LSB): 1; Eco-Plan: Green (RoHS & no Sb/Br); INL(Max)(+/-LSB): 1; Settling Time(us): 1; Mounting Technology: Surface Mount; Code_JEDEC: MS-012; ComponentLink1Description: Manufacturer URL; ComponentLink1URL: http://www.ti.com/; ComponentLink2Description: Datasheet; ComponentLink2URL: http://www.ti.com/general/docs/lit/getliterature.tsp?genericPartNumber=DAC8830-EP&fileType=pdf; ComponentLink3Description: Package Specification; ComponentLink3URL: http://www.ti.com/litv/pdf/msoi002j
footprint TI-D8_N (SOIC, 8-Leads, Body 4.9x3.9mm, Pitch 1.27mm, IPC Medium Density)
footprint TI-D8_L (SOIC, 8-Leads, Body 4.9x3.9mm, Pitch 1.27mm, IPC High Density)
footprint TI-D8_M (SOIC, 8-Leads, Body 4.9x3.9mm, Pitch 1.27mm, IPC Low Density)
pins: 1 VOUT (out) "Analog output of DAC", 2 AGND (power) "Analog ground", 3 VREF (in) "Voltage reference input", 4 ~{CS} (in) "Chip select input (active low). Data are not clocked into SDI unless C\S\ is low", 5 SCLK (in) "Serial clock input", 6 SDI (in) "Serial data input. Data are latched into input register on the rising edge of SCLK.", 7 DGND (power) "Digital ground", 8 VDD (power) "Analog power supply, +3 V to +5 V"

## DAC8831IBD
designator U?
16-Bit, Ultra-Low Power, Voltage Output Digital to Analog Converter, -40 to 85 degC, 14-pin SOIC (D14), Green (RoHS & no Sb/Br); Manufacturer: Texas Instruments; PartNumber: DAC8831IBD; DAC Channels: 1; INL(Max)(+/-LSB): 2; Interface: Serial SPI; Power Consumption(Typ)(mW): 0.015; Resolution(Bits): 16; SubFamily: Precision DAC (=<10MSPS); DatasheetVersion: SLAS449D; PackageVersion: 4040047-5/M, 06/2011; PackageReference: D14; PackageDescription: 14-Pin Plastic Small Outline, Body 8.65 x 3.9 mm, Pitch 1.27 mm; Supplier 1: Digi-Key; Supplier Part Number 1: 296-18028-5-ND; Supplier 2: Farnell; Supplier Part Number 2: 1624421; Supplier 3: Newark; Supplier Part Number 3: 01P3395; Supplier 4: Newark; Supplier Part Number 4: 33K5138; Supplier 5: Mouser; Supplier Part Number 5: 595-DAC8831IBD; DNL(Max)(+/-LSB): 1; Eco-Plan: Green (RoHS & no Sb/Br); Settling Time(us): 1; Mounting Technology: Surface Mount; Code_JEDEC: MS-012; ComponentLink1Description: Manufacturer URL; ComponentLink1URL: http://www.ti.com/; ComponentLink2Description: Datasheet; ComponentLink2URL: http://www.ti.com/general/docs/lit/getliterature.tsp?genericPartNumber=DAC8831&fileType=pdf; ComponentLink3Description: Package Specification; ComponentLink3URL: http://www.ti.com/lit/ml/mpds177g/mpds177g.pdf
footprint TI-D14_N (SOIC, 14-Leads, Body 8.65x3.9mm, Pitch 1.27mm, IPC Medium Density)
footprint TI-D14_L (SOIC, 14-Leads, Body 8.65x3.9mm, Pitch 1.27mm, IPC High Density)
footprint TI-D14_M (SOIC, 14-Leads, Body 8.65x3.9mm, Pitch 1.27mm, IPC Low Density)
pins: 1 RFB (in) "Feedback resistor. Connect to the output of external operational amplifier in bipolar mode.", 2 VOUT (out) "Analog output of DAC", 3 AGNDF (power) "Analog ground (Force)", 4 AGNDS (power) "Analog ground (Sense)", 5 VREF-S (in) "Voltage reference input (Sense). Connect to external voltage reference", 6 VREF-F (in) "Voltage reference input (Force). Connect to external voltage reference", 7 ~{CS} (in) "Chip select input (active low). Data are not clocked into SDI unless C\S\ is low.", 8 SCLK (in) "Serial clock input.", 9 NC "No internal connection", 10 SDI (in) "Serial data input. Data are latched into input register on the rising edge of SCLK.", 11 ~{LDAC} (in) "Load DAC control input. Active low. When L\D\A\C\ is Low, the DAC latch is simultaneously updated with the content of the input register.", 12 DGND (power) "Digital ground", 13 INV (out) "Junction point of internal scaling resistors. Connect to external operational amplifier inverting input in bipolar mode.", 14 VDD (power) "Analog power supply, +3 V to +5 V."

## DAC8831IBDG4
designator U?
16-Bit, Ultra-Low Power, Voltage Output Digital to Analog Converter, -40 to 85 degC, 14-pin SOIC (D14), Green (RoHS & no Sb/Br); Manufacturer: Texas Instruments; PartNumber: DAC8831IBDG4; DAC Channels: 1; INL(Max)(+/-LSB): 2; Interface: Serial SPI; Power Consumption(Typ)(mW): 0.015; Resolution(Bits): 16; SubFamily: Precision DAC (=<10MSPS); DatasheetVersion: SLAS449D; PackageVersion: 4040047-5/M, 06/2011; PackageReference: D14; PackageDescription: 14-Pin Plastic Small Outline, Body 8.65 x 3.9 mm, Pitch 1.27 mm; Supplier 1: Digi-Key; Supplier Part Number 1: DAC8831IBDG4-ND; Supplier 2: Mouser; Supplier Part Number 2: 595-DAC8831IBDG4; DNL(Max)(+/-LSB): 1; Eco-Plan: Green (RoHS & no Sb/Br); Settling Time(us): 1; Mounting Technology: Surface Mount; Code_JEDEC: MS-012; ComponentLink1Description: Manufacturer URL; ComponentLink1URL: http://www.ti.com/; ComponentLink2Description: Datasheet; ComponentLink2URL: http://www.ti.com/general/docs/lit/getliterature.tsp?genericPartNumber=DAC8831&fileType=pdf; ComponentLink3Description: Package Specification; ComponentLink3URL: http://www.ti.com/lit/ml/mpds177g/mpds177g.pdf
footprint TI-D14_N (SOIC, 14-Leads, Body 8.65x3.9mm, Pitch 1.27mm, IPC Medium Density)
footprint TI-D14_L (SOIC, 14-Leads, Body 8.65x3.9mm, Pitch 1.27mm, IPC High Density)
footprint TI-D14_M (SOIC, 14-Leads, Body 8.65x3.9mm, Pitch 1.27mm, IPC Low Density)
pins: 1 RFB (in) "Feedback resistor. Connect to the output of external operational amplifier in bipolar mode.", 2 VOUT (out) "Analog output of DAC", 3 AGNDF (power) "Analog ground (Force)", 4 AGNDS (power) "Analog ground (Sense)", 5 VREF-S (in) "Voltage reference input (Sense). Connect to external voltage reference", 6 VREF-F (in) "Voltage reference input (Force). Connect to external voltage reference", 7 ~{CS} (in) "Chip select input (active low). Data are not clocked into SDI unless C\S\ is low.", 8 SCLK (in) "Serial clock input.", 9 NC "No internal connection", 10 SDI (in) "Serial data input. Data are latched into input register on the rising edge of SCLK.", 11 ~{LDAC} (in) "Load DAC control input. Active low. When L\D\A\C\ is Low, the DAC latch is simultaneously updated with the content of the input register.", 12 DGND (power) "Digital ground", 13 INV (out) "Junction point of internal scaling resistors. Connect to external operational amplifier inverting input in bipolar mode.", 14 VDD (power) "Analog power supply, +3 V to +5 V."

## DAC8831IBDR
designator U?
16-Bit, Ultra-Low Power, Voltage Output Digital to Analog Converter, -40 to 85 degC, 14-pin SOIC (D14), Green (RoHS & no Sb/Br); Manufacturer: Texas Instruments; PartNumber: DAC8831IBDR; DAC Channels: 1; INL(Max)(+/-LSB): 2; Interface: Serial SPI; Power Consumption(Typ)(mW): 0.015; Resolution(Bits): 16; SubFamily: Precision DAC (=<10MSPS); DatasheetVersion: SLAS449D; PackageVersion: 4040047-5/M, 06/2011; PackageReference: D14; PackageDescription: 14-Pin Plastic Small Outline, Body 8.65 x 3.9 mm, Pitch 1.27 mm; Supplier 1: Digi-Key; Supplier Part Number 1: DAC8831IBDR-ND; Supplier 2: Mouser; Supplier Part Number 2: 595-DAC8831IBDR; DNL(Max)(+/-LSB): 1; Eco-Plan: Green (RoHS & no Sb/Br); Settling Time(us): 1; Mounting Technology: Surface Mount; Code_JEDEC: MS-012; ComponentLink1Description: Manufacturer URL; ComponentLink1URL: http://www.ti.com/; ComponentLink2Description: Datasheet; ComponentLink2URL: http://www.ti.com/general/docs/lit/getliterature.tsp?genericPartNumber=DAC8831&fileType=pdf; ComponentLink3Description: Package Specification; ComponentLink3URL: http://www.ti.com/lit/ml/mpds177g/mpds177g.pdf
footprint TI-D14_N (SOIC, 14-Leads, Body 8.65x3.9mm, Pitch 1.27mm, IPC Medium Density)
footprint TI-D14_L (SOIC, 14-Leads, Body 8.65x3.9mm, Pitch 1.27mm, IPC High Density)
footprint TI-D14_M (SOIC, 14-Leads, Body 8.65x3.9mm, Pitch 1.27mm, IPC Low Density)
pins: 1 RFB (in) "Feedback resistor. Connect to the output of external operational amplifier in bipolar mode.", 2 VOUT (out) "Analog output of DAC", 3 AGNDF (power) "Analog ground (Force)", 4 AGNDS (power) "Analog ground (Sense)", 5 VREF-S (in) "Voltage reference input (Sense). Connect to external voltage reference", 6 VREF-F (in) "Voltage reference input (Force). Connect to external voltage reference", 7 ~{CS} (in) "Chip select input (active low). Data are not clocked into SDI unless C\S\ is low.", 8 SCLK (in) "Serial clock input.", 9 NC "No internal connection", 10 SDI (in) "Serial data input. Data are latched into input register on the rising edge of SCLK.", 11 ~{LDAC} (in) "Load DAC control input. Active low. When L\D\A\C\ is Low, the DAC latch is simultaneously updated with the content of the input register.", 12 DGND (power) "Digital ground", 13 INV (out) "Junction point of internal scaling resistors. Connect to external operational amplifier inverting input in bipolar mode.", 14 VDD (power) "Analog power supply, +3 V to +5 V."

## DAC8831IBDRG4
designator U?
16-Bit, Ultra-Low Power, Voltage Output Digital to Analog Converter, -40 to 85 degC, 14-pin SOIC (D14), Green (RoHS & no Sb/Br); Manufacturer: Texas Instruments; PartNumber: DAC8831IBDRG4; DAC Channels: 1; INL(Max)(+/-LSB): 2; Interface: Serial SPI; Power Consumption(Typ)(mW): 0.015; Resolution(Bits): 16; SubFamily: Precision DAC (=<10MSPS); DatasheetVersion: SLAS449D; PackageVersion: 4040047-5/M, 06/2011; PackageReference: D14; PackageDescription: 14-Pin Plastic Small Outline, Body 8.65 x 3.9 mm, Pitch 1.27 mm; Supplier 1: Digi-Key; Supplier Part Number 1: DAC8831IBDRG4-ND; Supplier 2: Mouser; Supplier Part Number 2: 595-DAC8831IBDRG4; DNL(Max)(+/-LSB): 1; Eco-Plan: Green (RoHS & no Sb/Br); Settling Time(us): 1; Mounting Technology: Surface Mount; Code_JEDEC: MS-012; ComponentLink1Description: Manufacturer URL; ComponentLink1URL: http://www.ti.com/; ComponentLink2Description: Datasheet; ComponentLink2URL: http://www.ti.com/general/docs/lit/getliterature.tsp?genericPartNumber=DAC8831&fileType=pdf; ComponentLink3Description: Package Specification; ComponentLink3URL: http://www.ti.com/lit/ml/mpds177g/mpds177g.pdf
footprint TI-D14_N (SOIC, 14-Leads, Body 8.65x3.9mm, Pitch 1.27mm, IPC Medium Density)
footprint TI-D14_L (SOIC, 14-Leads, Body 8.65x3.9mm, Pitch 1.27mm, IPC High Density)
footprint TI-D14_M (SOIC, 14-Leads, Body 8.65x3.9mm, Pitch 1.27mm, IPC Low Density)
pins: 1 RFB (in) "Feedback resistor. Connect to the output of external operational amplifier in bipolar mode.", 2 VOUT (out) "Analog output of DAC", 3 AGNDF (power) "Analog ground (Force)", 4 AGNDS (power) "Analog ground (Sense)", 5 VREF-S (in) "Voltage reference input (Sense). Connect to external voltage reference", 6 VREF-F (in) "Voltage reference input (Force). Connect to external voltage reference", 7 ~{CS} (in) "Chip select input (active low). Data are not clocked into SDI unless C\S\ is low.", 8 SCLK (in) "Serial clock input.", 9 NC "No internal connection", 10 SDI (in) "Serial data input. Data are latched into input register on the rising edge of SCLK.", 11 ~{LDAC} (in) "Load DAC control input. Active low. When L\D\A\C\ is Low, the DAC latch is simultaneously updated with the content of the input register.", 12 DGND (power) "Digital ground", 13 INV (out) "Junction point of internal scaling resistors. Connect to external operational amplifier inverting input in bipolar mode.", 14 VDD (power) "Analog power supply, +3 V to +5 V."

## DAC8831IBRGYR
designator U?
16-Bit, Ultra-Low Power, Voltage Output Digital to Analog Converter, -40 to 85 degC, 14-pin QFN (RGY14), Green (RoHS & no Sb/Br); Manufacturer: Texas Instruments; PartNumber: DAC8831IBRGYR; DAC Channels: 1; INL(Max)(+/-LSB): 2; Interface: Serial SPI; Power Consumption(Typ)(mW): 0.015; Resolution(Bits): 16; SubFamily: Precision DAC (=<10MSPS); DatasheetVersion: SLAS449D; PackageVersion: 4203539-2/I, 06/2011; PackageReference: RGY14-2050X2050TP; PackageDescription: 14-Pin Plastic Flat Pack, Body 3.5 x 3.5 mm, Pitch 0.5 mm; Supplier 1: Digi-Key; Supplier Part Number 1: DAC8831IBRGYR-ND; Supplier 2: Mouser; Supplier Part Number 2: 595-DAC8831IBRGYR; DNL(Max)(+/-LSB): 1; Eco-Plan: Green (RoHS & no Sb/Br); Settling Time(us): 1; Mounting Technology: Surface Mount; Code_JEDEC: MO-241; ComponentLink1Description: Manufacturer URL; ComponentLink1URL: http://www.ti.com/; ComponentLink2Description: Datasheet; ComponentLink2URL: http://www.ti.com/general/docs/lit/getliterature.tsp?genericPartNumber=DAC8831&fileType=pdf; ComponentLink3Description: Package Specification; ComponentLink3URL: http://www.ti.com/lit/ml/mpqf114g/mpqf114g.pdf
footprint TI-RGY14-2050X2050TP_V (QFN, 14-Leads, Body 3.5x3.5mm, Pitch 0.5mm, Thermal Pad 2.05x2.05mm)
pins: 1 RFB (in) "Feedback resistor. Connect to the output of external operational amplifier in bipolar mode.", 2 VOUT (out) "Analog output of DAC", 3 AGNDF (power) "Analog ground (Force)", 4 AGNDS (power) "Analog ground (Sense)", 5 VREF-S (in) "Voltage reference input (Sense). Connect to external voltage reference", 6 VREF-F (in) "Voltage reference input (Force). Connect to external voltage reference", 7 ~{CS} (in) "Chip select input (active low). Data are not clocked into SDI unless C\S\ is low.", 8 SCLK (in) "Serial clock input.", 9 NC "No internal connection", 10 SDI (in) "Serial data input. Data are latched into input register on the rising edge of SCLK", 11 ~{LDAC} (in) "Load DAC control input. Active low. When L\D\A\C\ is Low, the DAC latch is simultaneously updated with the content of the input register.", 12 DGND (power) "Digital ground", 13 INV (out) "Junction point of internal scaling resistors. Connect to external operational amplifier inverting input in bipolar mode.", 14 VDD (power) "Analog power supply, +3 V to +5 V", 15 EP (power) "Exposed thermal pad in the QFN package must be connected to analog ground."

## DAC8831IBRGYRG4
designator U?
16-Bit, Ultra-Low Power, Voltage Output Digital to Analog Converter, -40 to 85 degC, 14-pin QFN (RGY14), Green (RoHS & no Sb/Br); Manufacturer: Texas Instruments; PartNumber: DAC8831IBRGYRG4; DAC Channels: 1; INL(Max)(+/-LSB): 2; Interface: Serial SPI; Power Consumption(Typ)(mW): 0.015; Resolution(Bits): 16; SubFamily: Precision DAC (=<10MSPS); DatasheetVersion: SLAS449D; PackageVersion: 4203539-2/I, 06/2011; PackageReference: RGY14-2050X2050TP; PackageDescription: 14-Pin Plastic Flat Pack, Body 3.5 x 3.5 mm, Pitch 0.5 mm; Supplier 1: Digi-Key; Supplier Part Number 1: DAC8831IBRGYRG4-ND; Supplier 2: Mouser; Supplier Part Number 2: 595-DAC8831IBRGYRG4; DNL(Max)(+/-LSB): 1; Eco-Plan: Green (RoHS & no Sb/Br); Settling Time(us): 1; Mounting Technology: Surface Mount; Code_JEDEC: MO-241; ComponentLink1Description: Manufacturer URL; ComponentLink1URL: http://www.ti.com/; ComponentLink2Description: Datasheet; ComponentLink2URL: http://www.ti.com/general/docs/lit/getliterature.tsp?genericPartNumber=DAC8831&fileType=pdf; ComponentLink3Description: Package Specification; ComponentLink3URL: http://www.ti.com/lit/ml/mpqf114g/mpqf114g.pdf
footprint TI-RGY14-2050X2050TP_V (QFN, 14-Leads, Body 3.5x3.5mm, Pitch 0.5mm, Thermal Pad 2.05x2.05mm)
pins: 1 RFB (in) "Feedback resistor. Connect to the output of external operational amplifier in bipolar mode.", 2 VOUT (out) "Analog output of DAC", 3 AGNDF (power) "Analog ground (Force)", 4 AGNDS (power) "Analog ground (Sense)", 5 VREF-S (in) "Voltage reference input (Sense). Connect to external voltage reference", 6 VREF-F (in) "Voltage reference input (Force). Connect to external voltage reference", 7 ~{CS} (in) "Chip select input (active low). Data are not clocked into SDI unless C\S\ is low.", 8 SCLK (in) "Serial clock input.", 9 NC "No internal connection", 10 SDI (in) "Serial data input. Data are latched into input register on the rising edge of SCLK", 11 ~{LDAC} (in) "Load DAC control input. Active low. When L\D\A\C\ is Low, the DAC latch is simultaneously updated with the content of the input register.", 12 DGND (power) "Digital ground", 13 INV (out) "Junction point of internal scaling resistors. Connect to external operational amplifier inverting input in bipolar mode.", 14 VDD (power) "Analog power supply, +3 V to +5 V", 15 EP (power) "Exposed thermal pad in the QFN package must be connected to analog ground."

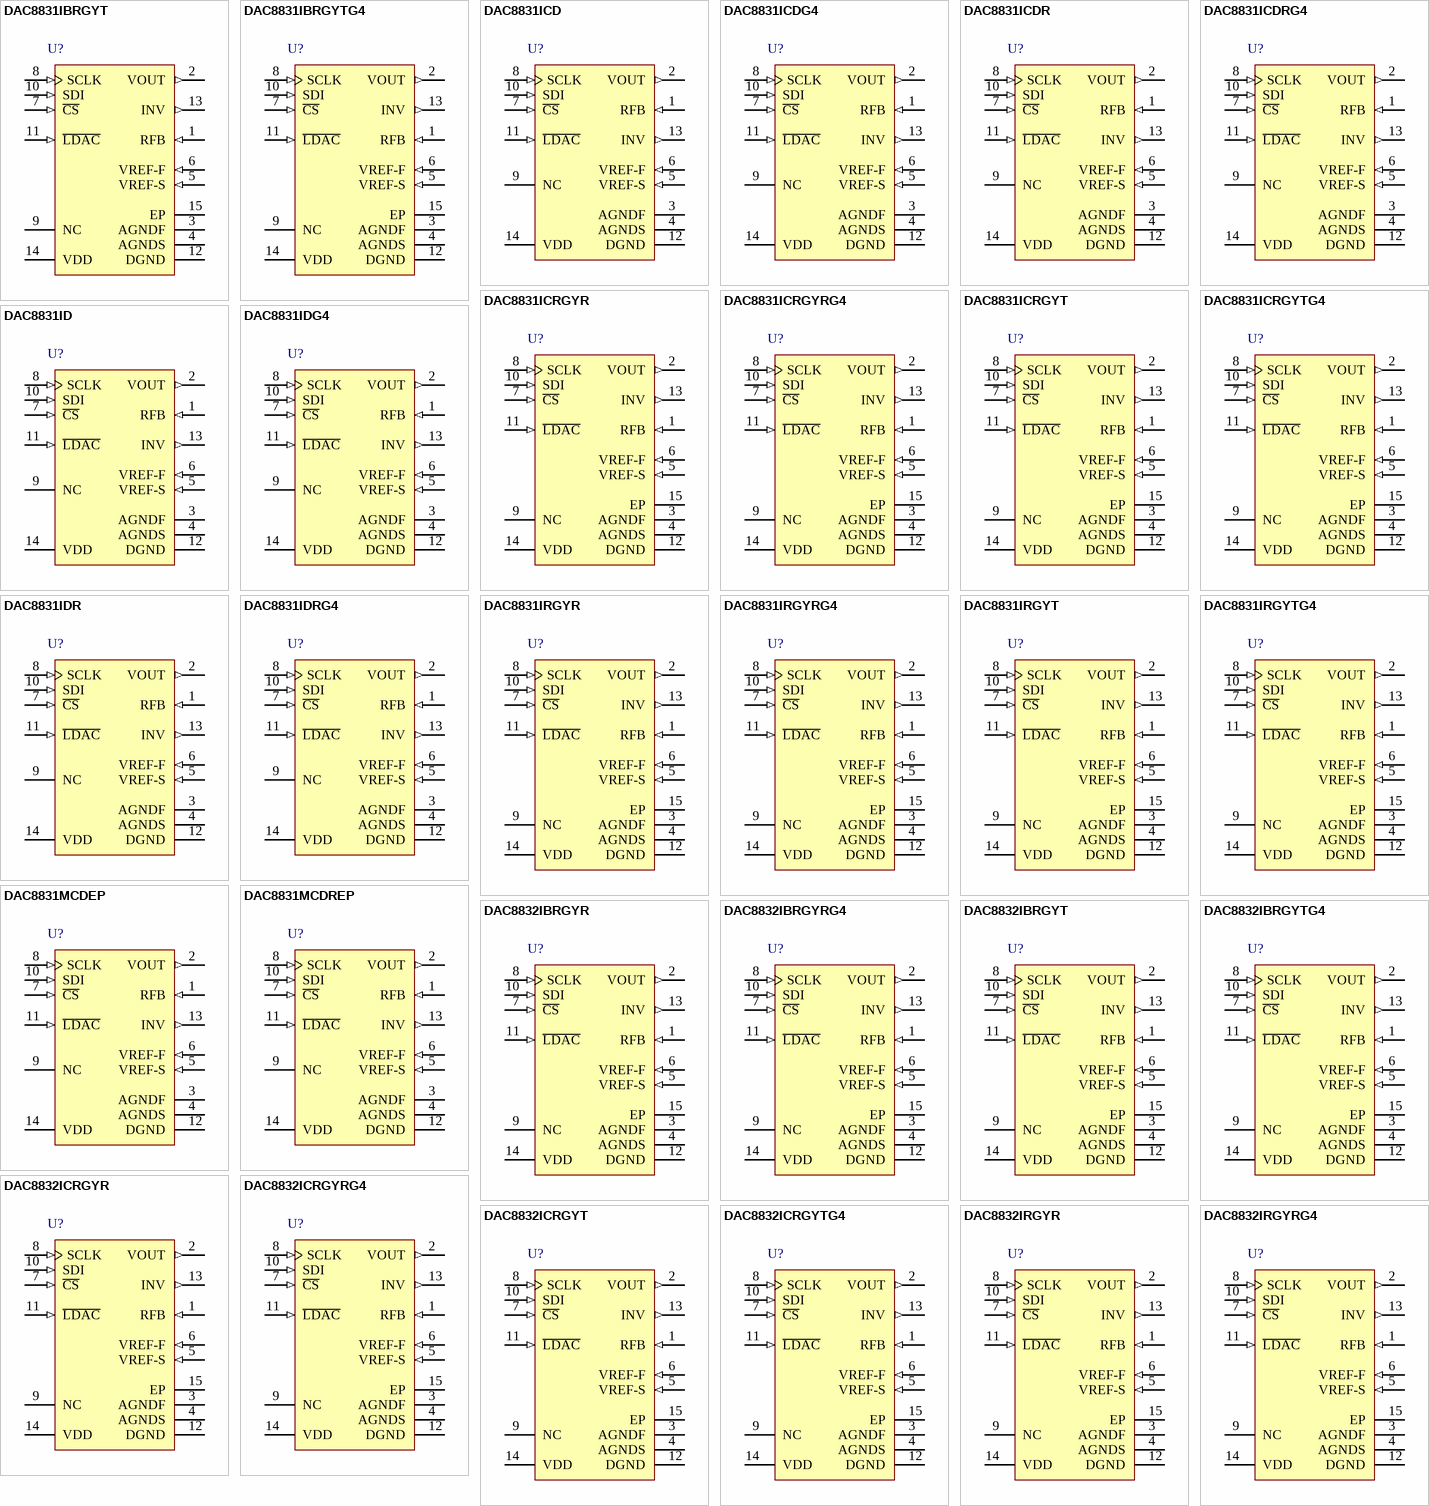
[diagram p54: symbols DAC8831IBRGYT to DAC8832IRGYRG4]

## DAC8831IBRGYT
designator U?
16-Bit, Ultra-Low Power, Voltage Output Digital to Analog Converter, -40 to 85 degC, 14-pin QFN (RGY14), Green (RoHS & no Sb/Br); Manufacturer: Texas Instruments; PartNumber: DAC8831IBRGYT; DAC Channels: 1; INL(Max)(+/-LSB): 2; Interface: Serial SPI; Power Consumption(Typ)(mW): 0.015; Resolution(Bits): 16; SubFamily: Precision DAC (=<10MSPS); DatasheetVersion: SLAS449D; PackageVersion: 4203539-2/I, 06/2011; PackageReference: RGY14-2050X2050TP; PackageDescription: 14-Pin Plastic Flat Pack, Body 3.5 x 3.5 mm, Pitch 0.5 mm; Supplier 1: Digi-Key; Supplier Part Number 1: 296-20703-2-ND; Supplier 2: Digi-Key; Supplier Part Number 2: 296-20703-1-ND; Supplier 3: Digi-Key; Supplier Part Number 3: 296-20703-6-ND; Supplier 4: Newark; Supplier Part Number 4: 14M1965; Supplier 5: Mouser; Supplier Part Number 5: 595-DAC8831IBRGYT; DNL(Max)(+/-LSB): 1; Eco-Plan: Green (RoHS & no Sb/Br); Settling Time(us): 1; Mounting Technology: Surface Mount; Code_JEDEC: MO-241; ComponentLink1Description: Manufacturer URL; ComponentLink1URL: http://www.ti.com/; ComponentLink2Description: Datasheet; ComponentLink2URL: http://www.ti.com/general/docs/lit/getliterature.tsp?genericPartNumber=DAC8831&fileType=pdf; ComponentLink3Description: Package Specification; ComponentLink3URL: http://www.ti.com/lit/ml/mpqf114g/mpqf114g.pdf
footprint TI-RGY14-2050X2050TP_V (QFN, 14-Leads, Body 3.5x3.5mm, Pitch 0.5mm, Thermal Pad 2.05x2.05mm)
pins: 1 RFB (in) "Feedback resistor. Connect to the output of external operational amplifier in bipolar mode.", 2 VOUT (out) "Analog output of DAC", 3 AGNDF (power) "Analog ground (Force)", 4 AGNDS (power) "Analog ground (Sense)", 5 VREF-S (in) "Voltage reference input (Sense). Connect to external voltage reference", 6 VREF-F (in) "Voltage reference input (Force). Connect to external voltage reference", 7 ~{CS} (in) "Chip select input (active low). Data are not clocked into SDI unless C\S\ is low.", 8 SCLK (in) "Serial clock input.", 9 NC "No internal connection", 10 SDI (in) "Serial data input. Data are latched into input register on the rising edge of SCLK", 11 ~{LDAC} (in) "Load DAC control input. Active low. When L\D\A\C\ is Low, the DAC latch is simultaneously updated with the content of the input register.", 12 DGND (power) "Digital ground", 13 INV (out) "Junction point of internal scaling resistors. Connect to external operational amplifier inverting input in bipolar mode.", 14 VDD (power) "Analog power supply, +3 V to +5 V", 15 EP (power) "Exposed thermal pad in the QFN package must be connected to analog ground."